# Altium integrated library SMAZ7V5_DIODE.IntLib: 1 symbol
Pins are listed as number, name and electrical type; pins without a type are passive.

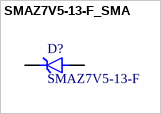
[diagram p0: symbol SMAZ7V5-13-F_SMA]

## SMAZ7V5-13-F_SMA
designator D?, comment SMAZ7V5-13-F
Zener Diode 7.5V 1W SMA; MF: Diodes Inc.; Price: None; Availability: Unavailable; Value: *; MP: SMAZ7V5-13-F
footprint DIOM5226X295N
pins: A, C